# Altium schematic symbol library SH1.0.SchLib: 12 symbols
Pins are listed as number, name and electrical type; pins without a type are passive.

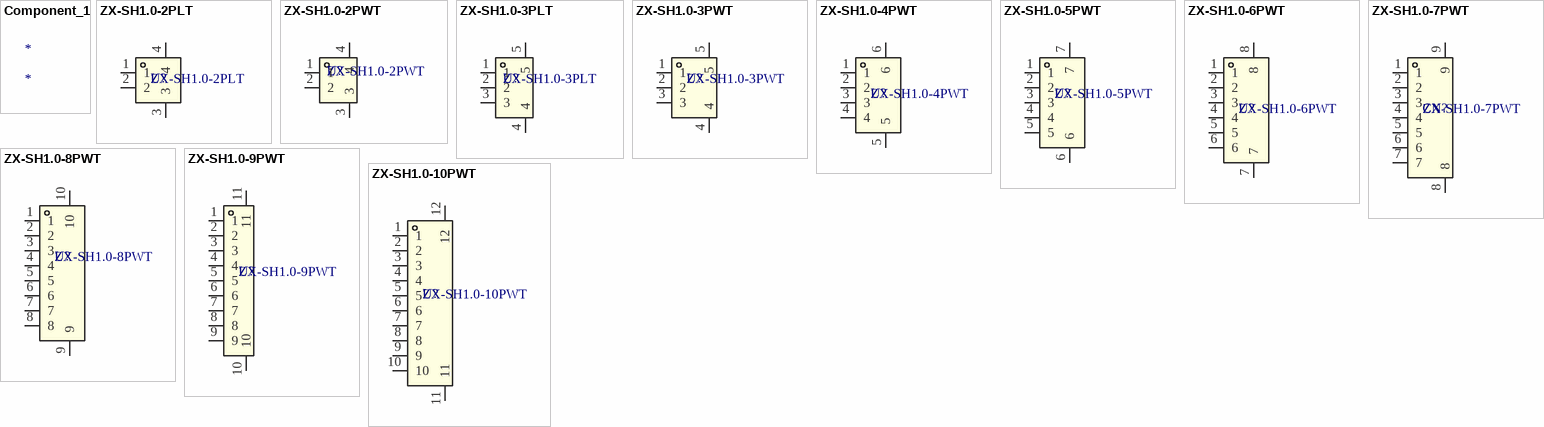
[diagram p0: symbols Component_1 to ZX-SH1.0-10PWT]

## Component_1
designator *

## ZX-SH1.0-2PLT
designator U?
插针结构:1x2P;间距:1mm;安装方式:立贴;参考系列:SH;总PIN数:2P;排数:1;每排PIN数:2;行距:-;额定电流:1A;触头材质:黄铜;触头镀层:锡;工作温度:-40℃~+85℃;; Manufacturer: Megastar(兆星); SEEX_AUTHOR: ref42; SEEX_COMPONENT_ID: C7430451; Current Rating: 1A; Number of PINs Per Row: 2; Pins Structure: 1x2P; Pitch: 1mm; Plastic Material: LCP; Reference Series: SH; Supplementary Features: 辅助焊脚; Voltage Rating: 50V; X-Length of Bottom Edge on Board (Spacing Line): 4.35mm; Y-Width of Bottom Edge on Board: 3.05mm; Z-Height of the Board: 4.4mm; SEEX_PROJECT_URL: https://github.com/ref42/seex; Footprint: CONN-SMD_2P-P1.00_MEGASTAR_ZX-SH1.0-2PLT; Color: 米色; Contact Material: 黄铜; Contact Plating: 锡; Datasheet: https://item.szlcsc.com/datasheet/ZX-SH1.0-2PLT/8430320.html; JLCPCB Part Class: Extended Part; LCSC Part Name: 1x2P 间距:1mm 立贴 系列:SH; Manufacturer Part: ZX-SH1.0-2PLT; Mounting Type: 立贴; Number of Pins: 2P; Number of Rows: 1; Operating Temperature: -40℃~+85℃; Supplier: LCSC; Supplier Footprint: SMD,P=1mm; Supplier Part: C7430451
footprint CONN-SMD_2P-P1.00_MEGASTAR_ZX-SH1.0-2PLT (PCB footprint)
pins: 1, 2, 3, 4

## ZX-SH1.0-2PWT
designator U?
插针结构:1x2P;间距:1mm;安装方式:卧贴;参考系列:SH;总PIN数:2P;排数:1;每排PIN数:2;行距:-;额定电流:1A;触头材质:黄铜;触头镀层:锡;工作温度:-40℃~+85℃;; Manufacturer: Megastar(兆星); SEEX_AUTHOR: ref42; SEEX_COMPONENT_ID: C7430444; Current Rating: 1A; Number of PINs Per Row: 2; Pins Structure: 1x2P; Pitch: 1mm; Plastic Material: LCP; Reference Series: SH; Supplementary Features: 辅助焊脚; Voltage Rating: 50V; X-Length of Bottom Edge on Board (Spacing Line): 4.35mm; Y-Width of Bottom Edge on Board: 4.3mm; Z-Height of the Board: 3.15mm; SEEX_PROJECT_URL: https://github.com/ref42/seex; Footprint: CONN-SMD_2P-P1.00_HX-1.0-2P-WT; Color: 米色; Contact Material: 黄铜; Contact Plating: 锡; Datasheet: https://item.szlcsc.com/datasheet/ZX-SH1.0-2PWT/8430313.html; JLCPCB Part Class: Extended Part; LCSC Part Name: 1x2P 间距:1mm 卧贴 系列:SH; Manufacturer Part: ZX-SH1.0-2PWT; Mounting Type: 卧贴; Number of Pins: 2P; Number of Rows: 1; Operating Temperature: -40℃~+85℃; Supplier: LCSC; Supplier Footprint: SMD,P=1mm,卧贴; Supplier Part: C7430444
footprint CONN-SMD_2P-P1.00_HX-1.0-2P-WT (PCB footprint)
pins: 1, 2, 3, 4

## ZX-SH1.0-3PLT
designator U?
插针结构:1x3P;间距:1mm;安装方式:立贴;参考系列:SH;总PIN数:3P;排数:1;每排PIN数:3;行距:-;额定电流:1A;触头材质:黄铜;触头镀层:锡;工作温度:-40℃~+85℃;; Manufacturer: Megastar(兆星); SEEX_AUTHOR: ref42; SEEX_COMPONENT_ID: C7430452; Current Rating: 1A; Number of PINs Per Row: 3; Pins Structure: 1x3P; Pitch: 1mm; Plastic Material: LCP; Reference Series: SH; Supplementary Features: 辅助焊脚; Voltage Rating: 50V; X-Length of Bottom Edge on Board (Spacing Line): 5.35mm; Y-Width of Bottom Edge on Board: 3.05mm; Z-Height of the Board: 4.4mm; SEEX_PROJECT_URL: https://github.com/ref42/seex; Footprint: CONN-SMD_3P-P1.00_HDGC_HDGC1002WV-S-3P; Color: 米色; Contact Material: 黄铜; Contact Plating: 锡; Datasheet: https://item.szlcsc.com/datasheet/ZX-SH1.0-3PLT/8430321.html; JLCPCB Part Class: Extended Part; LCSC Part Name: 1x3P 间距:1mm 立贴 系列:SH; Manufacturer Part: ZX-SH1.0-3PLT; Mounting Type: 立贴; Number of Pins: 3P; Number of Rows: 1; Operating Temperature: -40℃~+85℃; Supplier: LCSC; Supplier Footprint: SMD,P=1mm; Supplier Part: C7430452
footprint CONN-SMD_3P-P1.00_HDGC_HDGC1002WV-S-3P (PCB footprint)
pins: 1, 2, 3, 4, 5

## ZX-SH1.0-3PWT
designator U?
插针结构:1x3P;间距:1mm;安装方式:卧贴;参考系列:SH;总PIN数:3P;排数:1;每排PIN数:3;行距:-;额定电流:1A;触头材质:黄铜;触头镀层:锡;工作温度:-40℃~+85℃;; Manufacturer: Megastar(兆星); SEEX_AUTHOR: ref42; SEEX_COMPONENT_ID: C7430445; Current Rating: 1A; Number of PINs Per Row: 3; Pins Structure: 1x3P; Pitch: 1mm; Plastic Material: LCP; Reference Series: SH; Supplementary Features: 辅助焊脚; Voltage Rating: 50V; X-Length of Bottom Edge on Board (Spacing Line): 5.35mm; Y-Width of Bottom Edge on Board: 4.3mm; Z-Height of the Board: 3.15mm; SEEX_PROJECT_URL: https://github.com/ref42/seex; Footprint: CONN-SMD_3P-P1.00_MEGASTAR_ZX-SH1.0-3PWT; Color: 米色; Contact Material: 黄铜; Contact Plating: 锡; Datasheet: https://item.szlcsc.com/datasheet/ZX-SH1.0-3PWT/8430314.html; JLCPCB Part Class: Extended Part; LCSC Part Name: 1x3P 间距:1mm 卧贴 系列:SH; Manufacturer Part: ZX-SH1.0-3PWT; Mounting Type: 卧贴; Number of Pins: 3P; Number of Rows: 1; Operating Temperature: -40℃~+85℃; Supplier: LCSC; Supplier Footprint: SMD,P=1mm,卧贴; Supplier Part: C7430445
footprint CONN-SMD_3P-P1.00_MEGASTAR_ZX-SH1.0-3PWT (PCB footprint)
pins: 1, 2, 3, 4, 5

## ZX-SH1.0-4PWT
designator U?
插针结构:1x4P;间距:1mm;安装方式:卧贴;参考系列:SH;总PIN数:4P;排数:1;每排PIN数:4;行距:-;额定电流:1A;触头材质:黄铜;触头镀层:锡;工作温度:-40℃~+85℃;; Manufacturer: Megastar(兆星); SEEX_AUTHOR: ref42; SEEX_COMPONENT_ID: C7430446; Current Rating: 1A; Number of PINs Per Row: 4; Pins Structure: 1x4P; Pitch: 1mm; Plastic Material: LCP; Reference Series: SH; Supplementary Features: 辅助焊脚; Voltage Rating: 50V; X-Length of Bottom Edge on Board (Spacing Line): 6.35mm; Y-Width of Bottom Edge on Board: 4.3mm; Z-Height of the Board: 3.15mm; SEEX_PROJECT_URL: https://github.com/ref42/seex; Footprint: CONN-SMD_4P-P1.00_MEGASTAR_ZX-SH1.0-4PWT; Color: 米色; Contact Material: 黄铜; Contact Plating: 锡; Datasheet: https://item.szlcsc.com/datasheet/ZX-SH1.0-4PWT/8430315.html; JLCPCB Part Class: Extended Part; LCSC Part Name: 1x4P 间距:1mm 卧贴 系列:SH; Manufacturer Part: ZX-SH1.0-4PWT; Mounting Type: 卧贴; Number of Pins: 4P; Number of Rows: 1; Operating Temperature: -40℃~+85℃; Supplier: LCSC; Supplier Footprint: SMD,P=1mm,卧贴; Supplier Part: C7430446
footprint CONN-SMD_4P-P1.00_MEGASTAR_ZX-SH1.0-4PWT (PCB footprint)
pins: 1, 2, 3, 4, 5, 6

## ZX-SH1.0-5PWT
designator U?
插针结构:1x5P;间距:1mm;安装方式:卧贴;参考系列:SH;总PIN数:5P;排数:1;每排PIN数:5;行距:-;额定电流:1A;触头材质:黄铜;触头镀层:锡;工作温度:-40℃~+85℃;; Manufacturer: Megastar(兆星); SEEX_AUTHOR: ref42; SEEX_COMPONENT_ID: C7430447; Current Rating: 1A; Number of PINs Per Row: 5; Pins Structure: 1x5P; Pitch: 1mm; Plastic Material: LCP; Reference Series: SH; Supplementary Features: 辅助焊脚; Voltage Rating: 50V; X-Length of Bottom Edge on Board (Spacing Line): 7.35mm; Y-Width of Bottom Edge on Board: 4.3mm; Z-Height of the Board: 3.15mm; SEEX_PROJECT_URL: https://github.com/ref42/seex; Footprint: CONN-SMD_5P-P1.00_MEGASTAR_ZX-SH1.0-5PWT; Color: 米色; Contact Material: 黄铜; Contact Plating: 锡; Datasheet: https://item.szlcsc.com/datasheet/ZX-SH1.0-5PWT/8430316.html; JLCPCB Part Class: Extended Part; LCSC Part Name: 1x5P 间距:1mm 卧贴 系列:SH; Manufacturer Part: ZX-SH1.0-5PWT; Mounting Type: 卧贴; Number of Pins: 5P; Number of Rows: 1; Operating Temperature: -40℃~+85℃; Supplier: LCSC; Supplier Footprint: SMD,P=1mm,卧贴; Supplier Part: C7430447
footprint CONN-SMD_5P-P1.00_MEGASTAR_ZX-SH1.0-5PWT (PCB footprint)
pins: 1, 2, 3, 4, 5, 6, 7

## ZX-SH1.0-6PWT
designator U?
插针结构:1x6P;间距:1mm;安装方式:卧贴;参考系列:SH;总PIN数:6P;排数:1;每排PIN数:6;行距:-;额定电流:1A;触头材质:黄铜;触头镀层:锡;工作温度:-40℃~+85℃;; Manufacturer: Megastar(兆星); SEEX_AUTHOR: ref42; SEEX_COMPONENT_ID: C7430448; Current Rating: 1A; Number of PINs Per Row: 6; Pins Structure: 1x6P; Pitch: 1mm; Plastic Material: LCP; Reference Series: SH; Supplementary Features: 辅助焊脚; Voltage Rating: 50V; X-Length of Bottom Edge on Board (Spacing Line): 8.35mm; Y-Width of Bottom Edge on Board: 4.3mm; Z-Height of the Board: 3.15mm; SEEX_PROJECT_URL: https://github.com/ref42/seex; Footprint: CONN-SMD_6P-P1.00_MEGASTAR_ZX-SH1.0-6PWT; Color: 米色; Contact Material: 黄铜; Contact Plating: 锡; Datasheet: https://item.szlcsc.com/datasheet/ZX-SH1.0-6PWT/8430317.html; JLCPCB Part Class: Extended Part; LCSC Part Name: 1x6P 间距:1mm 卧贴 系列:SH; Manufacturer Part: ZX-SH1.0-6PWT; Mounting Type: 卧贴; Number of Pins: 6P; Number of Rows: 1; Operating Temperature: -40℃~+85℃; Supplier: LCSC; Supplier Footprint: SMD,P=1mm,卧贴; Supplier Part: C7430448
footprint CONN-SMD_6P-P1.00_MEGASTAR_ZX-SH1.0-6PWT (PCB footprint)
pins: 1, 2, 3, 4, 5, 6, 7, 8

## ZX-SH1.0-7PWT
designator CN?
插针结构:1x7P;间距:1mm;安装方式:卧贴;参考系列:SH;总PIN数:7P;排数:1;每排PIN数:7;行距:-;额定电流:1A;触头材质:黄铜;触头镀层:锡;工作温度:-40℃~+85℃;; Manufacturer: Megastar(兆星); SEEX_AUTHOR: ref42; SEEX_COMPONENT_ID: C7430449; Current Rating: 1A; Number of PINs Per Row: 7; Pins Structure: 1x7P; Pitch: 1mm; Plastic Material: LCP; Reference Series: SH; Supplementary Features: 辅助焊脚; Voltage Rating: 50V; X-Length of Bottom Edge on Board (Spacing Line): 9.35mm; Y-Width of Bottom Edge on Board: 4.3mm; Z-Height of the Board: 3.15mm; SEEX_PROJECT_URL: https://github.com/ref42/seex; Footprint: CONN-SMD_7P-P1.00_MEGASTAR_ZX-SH1.0-7PWT; Color: 米色; Contact Material: 黄铜; Contact Plating: 锡; Datasheet: https://item.szlcsc.com/datasheet/ZX-SH1.0-7PWT/8430318.html; JLCPCB Part Class: Extended Part; LCSC Part Name: 1x7P 间距:1mm 卧贴 系列:SH; Manufacturer Part: ZX-SH1.0-7PWT; Mounting Type: 卧贴; Number of Pins: 7P; Number of Rows: 1; Operating Temperature: -40℃~+85℃; Supplier: LCSC; Supplier Footprint: SMD,P=1mm,卧贴; Supplier Part: C7430449
footprint CONN-SMD_7P-P1.00_MEGASTAR_ZX-SH1.0-7PWT (PCB footprint)
pins: 1, 2, 3, 4, 5, 6, 7, 8, 9

## ZX-SH1.0-8PWT
designator U?
插针结构:1x8P;间距:1mm;安装方式:卧贴;参考系列:SH;总PIN数:8P;排数:1;每排PIN数:8;行距:-;额定电流:1A;触头材质:黄铜;触头镀层:锡;工作温度:-40℃~+85℃;; Manufacturer: Megastar(兆星); SEEX_AUTHOR: ref42; SEEX_COMPONENT_ID: C7430450; Current Rating: 1A; Number of PINs Per Row: 8; Pins Structure: 1x8P; Pitch: 1mm; Plastic Material: LCP; Reference Series: SH; Supplementary Features: 辅助焊脚; Voltage Rating: 50V; X-Length of Bottom Edge on Board (Spacing Line): 10.35mm; Y-Width of Bottom Edge on Board: 4.3mm; Z-Height of the Board: 3.15mm; SEEX_PROJECT_URL: https://github.com/ref42/seex; Footprint: CONN-SMD_8P-P1.00_MEGASTAR_ZX-SH1.0-8PWT; Color: 米色; Contact Material: 黄铜; Contact Plating: 锡; Datasheet: https://item.szlcsc.com/datasheet/ZX-SH1.0-8PWT/8430319.html; JLCPCB Part Class: Extended Part; LCSC Part Name: 1x8P 间距:1mm 卧贴 系列:SH; Manufacturer Part: ZX-SH1.0-8PWT; Mounting Type: 卧贴; Number of Pins: 8P; Number of Rows: 1; Operating Temperature: -40℃~+85℃; Supplier: LCSC; Supplier Footprint: SMD,P=1mm,卧贴; Supplier Part: C7430450
footprint CONN-SMD_8P-P1.00_MEGASTAR_ZX-SH1.0-8PWT (PCB footprint)
pins: 1, 2, 3, 4, 5, 6, 7, 8, 9, 10

## ZX-SH1.0-9PWT
designator U?
插针结构:1x9P;间距:1mm;安装方式:卧贴;参考系列:SH;总PIN数:9P;排数:1;每排PIN数:9;行距:-;额定电流:1A;触头材质:黄铜;触头镀层:锡;工作温度:-25℃~+85℃;; Manufacturer: Megastar(兆星); SEEX_AUTHOR: ref42; SEEX_COMPONENT_ID: C19272376; Current Rating: 1A; Number of PINs Per Row: 9; Pins Structure: 1x9P; Pitch: 1mm; Plastic Material: LCP; Reference Series: SH; Supplementary Features: 辅助焊脚; Voltage Rating: 50V; X-Length of Bottom Edge on Board (Spacing Line): 11.35mm; Y-Width of Bottom Edge on Board: 4.3mm; Z-Height of the Board: 3.15mm; SEEX_PROJECT_URL: https://github.com/ref42/seex; Footprint: CONN-SMD_9P-P1.00_ZX-SH1.0-9PWT; Color: 米色; Contact Material: 黄铜; Contact Plating: 锡; Datasheet: https://item.szlcsc.com/datasheet/ZX-SH1.0-9PWT/20550387.html; JLCPCB Part Class: Extended Part; LCSC Part Name: 1x9P 间距:1mm 卧贴 系列:SH; Manufacturer Part: ZX-SH1.0-9PWT; Mounting Type: 卧贴; Number of Pins: 9P; Number of Rows: 1; Operating Temperature: -25℃~+85℃; Supplier: LCSC; Supplier Footprint: SMD,P=1mm,卧贴; Supplier Part: C19272376
footprint CONN-SMD_9P-P1.00_ZX-SH1.0-9PWT (PCB footprint)
pins: 1, 2, 3, 4, 5, 6, 7, 8, 9, 10, 11

## ZX-SH1.0-10PWT
designator U?
插针结构:1x10P;间距:1mm;安装方式:卧贴;参考系列:SH;总PIN数:10P;排数:1;每排PIN数:10;行距:-;额定电流:1A;触头材质:黄铜;触头镀层:锡;工作温度:-25℃~+85℃;; Manufacturer: Megastar(兆星); SEEX_AUTHOR: ref42; SEEX_COMPONENT_ID: C19272377; Current Rating: 1A; Number of PINs Per Row: 10; Pins Structure: 1x10P; Pitch: 1mm; Plastic Material: LCP; Reference Series: SH; Supplementary Features: 辅助焊脚; Voltage Rating: 50V; X-Length of Bottom Edge on Board (Spacing Line): 12.35mm; Y-Width of Bottom Edge on Board: 4.3mm; Z-Height of the Board: 3.15mm; SEEX_PROJECT_URL: https://github.com/ref42/seex; Footprint: CONN-SMD_10P-P1.00_ZX-SH1.0-10PWT; Color: 米色; Contact Material: 黄铜; Contact Plating: 锡; Datasheet: https://item.szlcsc.com/datasheet/ZX-SH1.0-10PWT/20550388.html; JLCPCB Part Class: Extended Part; LCSC Part Name: 1x10P 间距:1mm 卧贴 系列:SH; Manufacturer Part: ZX-SH1.0-10PWT; Mounting Type: 卧贴; Number of Pins: 10P; Number of Rows: 1; Operating Temperature: -25℃~+85℃; Supplier: LCSC; Supplier Footprint: SMD,P=1mm,卧贴; Supplier Part: C19272377
footprint CONN-SMD_10P-P1.00_ZX-SH1.0-10PWT (PCB footprint)
pins: 1, 2, 3, 4, 5, 6, 7, 8, 9, 10, 11, 12